# EAGLE library part FT231X (library blinkinlabs)
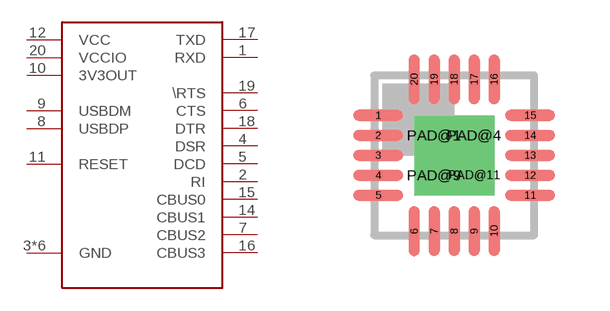
[diagram p27: symbol with the pads of QFN20_LONGLEADS; footprint QFN20_LONGLEADS]

Designator prefix -

## FT231XQFN20  [QFN20_LONGLEADS]
1  RXD
2  RI
3  GND
4  DSR
5  DCD
6  CTS
7  CBUS2
8  USBDP
9  USBDM
10  3V3OUT
11  RESET
12  VCC
13  GND
14  CBUS1
15  CBUS0
16  CBUS3
17  TXD
18  DTR
19  \RTS
20  VCCIO
PAD@1  GND
PAD@4  GND
PAD@9  GND
PAD@11  GND

## Footprint QFN20_LONGLEADS (pad centres in mm)
smd 1.25 x 0.275: 1 -1.9,1; 2 -1.9,0.5; 3 -1.9,0; 4 -1.9,-0.5; 5 -1.9,-1; 11 1.9,-1; 12 1.9,-0.5; 13 1.9,0; 14 1.9,0.5; 15 1.9,1
smd 0.275 x 1.25: 6 -1,-1.9; 7 -0.5,-1.9; 8 0,-1.9; 9 0.5,-1.9; 10 1,-1.9; 16 1,1.9; 17 0.5,1.9; 18 0,1.9; 19 -0.5,1.9; 20 -1,1.9
drill 0.35 pad 1 square: PAD@1 -0.5,0.5; PAD@4 0.5,0.5; PAD@9 -0.5,-0.5; PAD@11 0.5,-0.5